# Altium integrated library TI Data Converters Digital to Analog Converter.IntLib: 1533 symbols (part 54 of 99)
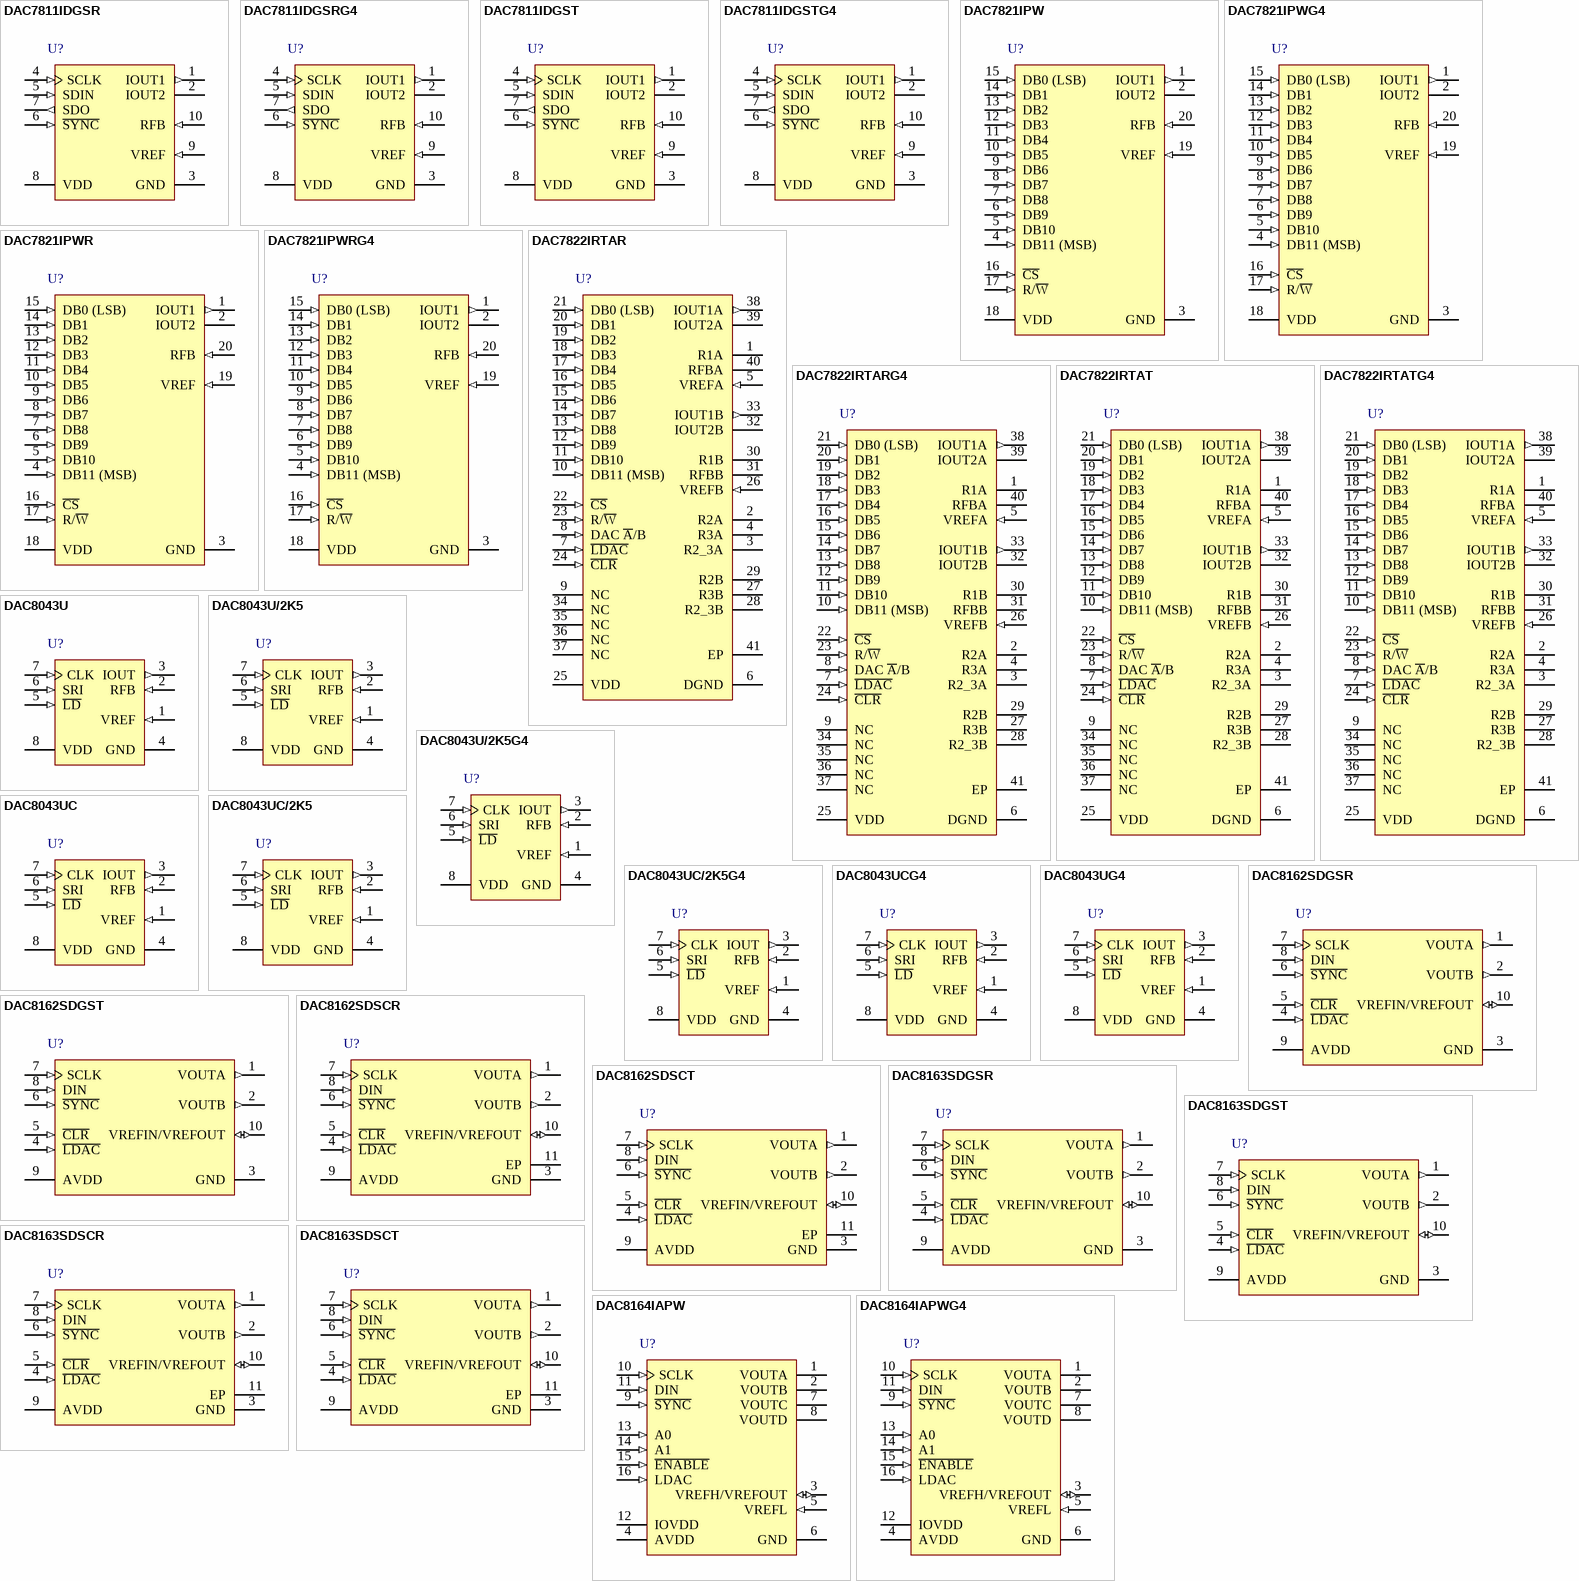
[diagram p126: symbols DAC7811IDGSR to DAC8164IAPWG4]

## DAC8163SDGST
designator U?
14-Bit, Dual, Low Power, Ultra-Low Glitch, Buffered Voltage Output DAC with 2.5 V, 4 ppm/degC Reference, -40 to 125 degC, 10-pin SOP (DGS10), Green (RoHS & no Sb/Br); Manufacturer: Texas Instruments; PartNumber: DAC8163SDGST; DAC Channels: 2; DNL(Max)(+/-LSB): 0.5; INL(Max)(+/-LSB): 3; Interface: Serial SPI; Power Consumption(Typ)(mW): 0.9; Resolution(Bits): 14; Settling Time(us): 7; SubFamily: Precision DAC (=<10MSPS); DatasheetVersion: SLAS719D; PackageVersion: 4073272/C, 02/2004; PackageReference: DGS10; PackageDescription: 10-Pin Plastic Small Outline, Body 3 x 3 mm, Pitch 0.5 mm; Supplier 1: Digi-Key; Supplier Part Number 1: 296-32088-2-ND; Supplier 2: Digi-Key; Supplier Part Number 2: 296-32088-1-ND; Supplier 3: Digi-Key; Supplier Part Number 3: 296-32088-6-ND; Supplier 4: Newark; Supplier Part Number 4: 51T4336; Supplier 5: Mouser; Supplier Part Number 5: 595-DAC8163SDGST; Eco-Plan: Green (RoHS & no Sb/Br); Mounting Technology: Surface Mount; Code_JEDEC: MO-153; ComponentLink1Description: Manufacturer URL; ComponentLink1URL: http://www.ti.com/; ComponentLink2Description: Datasheet; ComponentLink2URL: http://www.ti.com/general/docs/lit/getliterature.tsp?genericPartNumber=DAC8163&fileType=pdf; ComponentLink3Description: Package Specification; ComponentLink3URL: http://www.ti.com/lit/ml/mpds035b/mpds035b.pdf
footprint TI-DGS10_N (SOP, 10-Leads, Body 3x3mm, Pitch 0.5mm, IPC Medium Density)
footprint TI-DGS10_L (SOP, 10-Leads, Body 3x3mm, Pitch 0.5mm, IPC High Density)
footprint TI-DGS10_M (SOP, 10-Leads, Body 3x3mm, Pitch 0.5mm, IPC Low Density)
pins: 1 VOUTA (out) "Analog output voltage from DAC-A", 2 VOUTB (out) "Analog output voltage from DAC-B", 3 GND (power) "Ground reference point for all circuitry on the device", 4 ~{LDAC} (in) "In synchronous mode, data are updated with the falling edge of the 24th SCLK cycle, which follows a falling edge of S\Y\N\C\. For such synchronous updates, the L\D\A\C\ pin is not required, and it must be connected to GND (See Datasheet)", 5 ~{CLR} (in) "Asynchronous clear input. The C\L\R\ input is falling-edge sensitive. When C\L\R\ is activated, zero scale (DACxx62) or mid-scale (DACxx63) is loaded to all input and DAC registers. This sets the DAC output voltages (See Datasheet)", 6 ~{SYNC} (in) "Level-triggered control input (active-low). This input is the frame synchronization signal for the input data. When S\Y\N\C\ goes low, it enables the input shift register, and data are sampled on subsequent falling clock (See Datasheet)", 7 SCLK (in) "Serial clock input. Data can be transferred at rates up to 50 MHz. Schmitt-trigger logic input", 8 DIN (in) "Serial data input. Data are clocked into the 24-bit input shift register on each falling edge of the serial clock input. Schmitt-trigger logic input", 9 AVDD (power) "Power-supply input, 2.7 V to 5.5 V", 10 VREFIN/VREFOUT (io) "Bidirectional voltage reference pin. If internal reference is used, 2.5-V output."

## DAC8163SDSCR
designator U?
14-Bit, Dual, Low Power, Ultra-Low Glitch, Buffered Voltage Output DAC with 2.5 V, 4 ppm/degC Reference, -40 to 125 degC, 10-pin SON (DSC10), Green (RoHS & no Sb/Br); Manufacturer: Texas Instruments; PartNumber: DAC8163SDSCR; DAC Channels: 2; DNL(Max)(+/-LSB): 0.5; INL(Max)(+/-LSB): 3; Interface: Serial SPI; Power Consumption(Typ)(mW): 0.9; Resolution(Bits): 14; Settling Time(us): 7; SubFamily: Precision DAC (=<10MSPS); DatasheetVersion: SLAS719D; PackageVersion: 4207383/E, 01/2011; PackageReference: DSC10-2550X1050TP; PackageDescription: 10-Pin Plastic Small Outline No-Lead, Body 3 x 3 mm, Pitch 0.5 mm; Supplier 1: Digi-Key; Supplier Part Number 1: 296-29029-2-ND; Supplier 2: Digi-Key; Supplier Part Number 2: 296-29029-1-ND; Supplier 3: Digi-Key; Supplier Part Number 3: 296-29029-6-ND; Supplier 4: Mouser; Supplier Part Number 4: 595-DAC8163SDSCR; Eco-Plan: Green (RoHS & no Sb/Br); Mounting Technology: Surface Mount; ComponentLink1Description: Manufacturer URL; ComponentLink1URL: http://www.ti.com/; ComponentLink2Description: Datasheet; ComponentLink2URL: http://www.ti.com/general/docs/lit/getliterature.tsp?genericPartNumber=DAC8163&fileType=pdf; ComponentLink3Description: Package Specification; ComponentLink3URL: http://www.ti.com/litv/pdf/mpds239d
footprint TI-DSC10-2550X1050TP_V (SON, 10-Leads, Body 3x3mm, Pitch 0.5mm, Thermal Pad 2.91x1.05mm)
pins: 1 VOUTA (out) "Analog output voltage from DAC-A", 2 VOUTB (out) "Analog output voltage from DAC-B", 3 GND (power) "Ground reference point for all circuitry on the device", 4 ~{LDAC} (in) "In synchronous mode, data are updated with the falling edge of the 24th SCLK cycle, which follows a falling edge of S\Y\N\C\. For such synchronous updates, the L\D\A\C\ pin is not required, and it must be connected to GND (See Datasheet)", 5 ~{CLR} (in) "Asynchronous clear input. The C\L\R\ input is falling-edge sensitive. When C\L\R\ is activated, zero scale (DACxx62) or mid-scale (DACxx63) is loaded to all input and DAC registers. This sets the DAC output voltages (See Datasheet)", 6 ~{SYNC} (in) "Level-triggered control input (active-low). This input is the frame synchronization signal for the input data. When S\Y\N\C\ goes low, it enables the input shift register, and data are sampled on subsequent falling clock (See Datasheet)", 7 SCLK (in) "Serial clock input. Data can be transferred at rates up to 50 MHz. Schmitt-trigger logic input", 8 DIN (in) "Serial data input. Data are clocked into the 24-bit input shift register on each falling edge of the serial clock input. Schmitt-trigger logic input", 9 AVDD (power) "Power-supply input, 2.7 V to 5.5 V", 10 VREFIN/VREFOUT (io) "Bidirectional voltage reference pin. If internal reference is used, 2.5-V output.", 11 EP (power) "It is recommended to connect the thermal pad to the ground plane for better thermal dissipation."

## DAC8163SDSCT
designator U?
14-Bit, Dual, Low Power, Ultra-Low Glitch, Buffered Voltage Output DAC with 2.5 V, 4 ppm/degC Reference, -40 to 125 degC, 10-pin SON (DSC10), Green (RoHS & no Sb/Br); Manufacturer: Texas Instruments; PartNumber: DAC8163SDSCT; DAC Channels: 2; DNL(Max)(+/-LSB): 0.5; INL(Max)(+/-LSB): 3; Interface: Serial SPI; Power Consumption(Typ)(mW): 0.9; Resolution(Bits): 14; Settling Time(us): 7; SubFamily: Precision DAC (=<10MSPS); DatasheetVersion: SLAS719D; PackageVersion: 4207383/E, 01/2011; PackageReference: DSC10-2550X1050TP; PackageDescription: 10-Pin Plastic Small Outline No-Lead, Body 3 x 3 mm, Pitch 0.5 mm; Supplier 1: Digi-Key; Supplier Part Number 1: 296-29097-2-ND; Supplier 2: Digi-Key; Supplier Part Number 2: 296-29097-1-ND; Supplier 3: Digi-Key; Supplier Part Number 3: 296-29097-6-ND; Supplier 4: Farnell; Supplier Part Number 4: 1924804; Supplier 5: Newark; Supplier Part Number 5: 51T4337; Supplier 6: Mouser; Supplier Part Number 6: 595-DAC8163SDSCT; Eco-Plan: Green (RoHS & no Sb/Br); Mounting Technology: Surface Mount; ComponentLink1Description: Manufacturer URL; ComponentLink1URL: http://www.ti.com/; ComponentLink2Description: Datasheet; ComponentLink2URL: http://www.ti.com/general/docs/lit/getliterature.tsp?genericPartNumber=DAC8163&fileType=pdf; ComponentLink3Description: Package Specification; ComponentLink3URL: http://www.ti.com/litv/pdf/mpds239d
footprint TI-DSC10-2550X1050TP_V (SON, 10-Leads, Body 3x3mm, Pitch 0.5mm, Thermal Pad 2.91x1.05mm)
pins: 1 VOUTA (out) "Analog output voltage from DAC-A", 2 VOUTB (out) "Analog output voltage from DAC-B", 3 GND (power) "Ground reference point for all circuitry on the device", 4 ~{LDAC} (in) "In synchronous mode, data are updated with the falling edge of the 24th SCLK cycle, which follows a falling edge of S\Y\N\C\. For such synchronous updates, the L\D\A\C\ pin is not required, and it must be connected to GND (See Datasheet)", 5 ~{CLR} (in) "Asynchronous clear input. The C\L\R\ input is falling-edge sensitive. When C\L\R\ is activated, zero scale (DACxx62) or mid-scale (DACxx63) is loaded to all input and DAC registers. This sets the DAC output voltages (See Datasheet)", 6 ~{SYNC} (in) "Level-triggered control input (active-low). This input is the frame synchronization signal for the input data. When S\Y\N\C\ goes low, it enables the input shift register, and data are sampled on subsequent falling clock (See Datasheet)", 7 SCLK (in) "Serial clock input. Data can be transferred at rates up to 50 MHz. Schmitt-trigger logic input", 8 DIN (in) "Serial data input. Data are clocked into the 24-bit input shift register on each falling edge of the serial clock input. Schmitt-trigger logic input", 9 AVDD (power) "Power-supply input, 2.7 V to 5.5 V", 10 VREFIN/VREFOUT (io) "Bidirectional voltage reference pin. If internal reference is used, 2.5-V output.", 11 EP (power) "It is recommended to connect the thermal pad to the ground plane for better thermal dissipation."

## DAC8164IAPW
designator U?
14-Bit, Quad Channel, Ultra-Low Glitch, Voltage Output DAC with 2.5 V, 2 ppm/degC Internal Reference, -40 to 105 degC, 16-pin SOP (PW16), Green (RoHS & no Sb/Br); Manufacturer: Texas Instruments; PartNumber: DAC8164IAPW; DAC Channels: 4; DNL(Max)(+/-LSB): 1; Interface: Serial SPI; Power Consumption(Typ)(mW): 2.6; Resolution(Bits): 14; Settling Time(us): 8; SFDR(dB): 79; SNR(dB): 87; SubFamily: Precision DAC (=<10MSPS); DatasheetVersion: SBAS410B; PackageVersion: 4040064-4/G, 02/2011; PackageReference: PW16; PackageDescription: 16-Pin Plastic Small Outline, Body 5 x 4.4 mm, Pitch 0.65 mm; Supplier 1: Digi-Key; Supplier Part Number 1: 296-23142-5-ND; Supplier 2: Farnell; Supplier Part Number 2: 1604244; Supplier 3: Newark; Supplier Part Number 3: 89M0335; Supplier 4: Mouser; Supplier Part Number 4: 595-DAC8164IAPW; Eco-Plan: Green (RoHS & no Sb/Br); INL(Max)(+/-LSB): 4; Mounting Technology: Surface Mount; Code_JEDEC: MO-153; ComponentLink1Description: Manufacturer URL; ComponentLink1URL: http://www.ti.com/; ComponentLink2Description: Datasheet; ComponentLink2URL: http://www.ti.com/general/docs/lit/getliterature.tsp?genericPartNumber=DAC8164&fileType=pdf; ComponentLink3Description: Package Specification; ComponentLink3URL: http://www.ti.com/lit/ml/mpds361/mpds361.pdf
footprint TI-PW16_N (SOP, 16-Leads, Body 5x4.4mm, Pitch 0.65mm, IPC Medium Density)
footprint TI-PW16_L (SOP, 16-Leads, Body 5x4.4mm, Pitch 0.65mm, IPC High Density)
footprint TI-PW16_M (SOP, 16-Leads, Body 5x4.4mm, Pitch 0.65mm, IPC Low Density)
pins: 1 VOUTA (hiz) "Analog output voltage from DAC-A", 2 VOUTB (hiz) "Analog output voltage from DAC-B", 3 VREFH/VREFOUT (io) "Positive reference input / reference output 2.5V if internal reference used.", 4 AVDD (power) "Power-supply input, 2.7V to 5.5V", 5 VREFL (in) "Negative reference input", 6 GND (power) "Ground reference point for all circuitry on the part", 7 VOUTC (hiz) "Analog output voltage from DAC-C", 8 VOUTD (hiz) "Analog output voltage from DAC-D", 9 ~{SYNC} (in) "Level-triggered control input (active-low). This input is the frame synchronization signal for the input data. When S\Y\N\C\ goes low, it enables the input shift register, and data are sampled on subsequent falling clock (See Datasheet)", 10 SCLK (in) "Serial clock input. Data can be transferred at rates up to 50MHz. Schmitt-Trigger logic input", 11 DIN (in) "Serial data input. Data are clocked into the 24-bit input shift register on each falling edge of the serial clock input.Schmitt-trigger logic input", 12 IOVDD (power) "Digital input-output power supply", 13 A0 (in) "Address 0-sets device address", 14 A1 (in) "Address 1-sets device address", 15 ~{ENABLE} (in) "The enable pin (active low) connects the SPI interface to the serial port", 16 LDAC (in) "Load DACs; rising edge triggered, loads all DAC registers"

## DAC8164IAPWG4
designator U?
14-Bit, Quad Channel, Ultra-Low Glitch, Voltage Output DAC with 2.5 V, 2 ppm/degC Internal Reference, -40 to 105 degC, 16-pin SOP (PW16), Green (RoHS & no Sb/Br); Manufacturer: Texas Instruments; PartNumber: DAC8164IAPWG4; DAC Channels: 4; DNL(Max)(+/-LSB): 1; Interface: Serial SPI; Power Consumption(Typ)(mW): 2.6; Resolution(Bits): 14; Settling Time(us): 8; SFDR(dB): 79; SNR(dB): 87; SubFamily: Precision DAC (=<10MSPS); DatasheetVersion: SBAS410B; PackageVersion: 4040064-4/G, 02/2011; PackageReference: PW16; PackageDescription: 16-Pin Plastic Small Outline, Body 5 x 4.4 mm, Pitch 0.65 mm; Supplier 1: Digi-Key; Supplier Part Number 1: DAC8164IAPWG4-ND; Supplier 2: Mouser; Supplier Part Number 2: 595-DAC8164IAPWG4; Eco-Plan: Green (RoHS & no Sb/Br); INL(Max)(+/-LSB): 4; Mounting Technology: Surface Mount; Code_JEDEC: MO-153; ComponentLink1Description: Manufacturer URL; ComponentLink1URL: http://www.ti.com/; ComponentLink2Description: Datasheet; ComponentLink2URL: http://www.ti.com/general/docs/lit/getliterature.tsp?genericPartNumber=DAC8164&fileType=pdf; ComponentLink3Description: Package Specification; ComponentLink3URL: http://www.ti.com/lit/ml/mpds361/mpds361.pdf
footprint TI-PW16_N (SOP, 16-Leads, Body 5x4.4mm, Pitch 0.65mm, IPC Medium Density)
footprint TI-PW16_L (SOP, 16-Leads, Body 5x4.4mm, Pitch 0.65mm, IPC High Density)
footprint TI-PW16_M (SOP, 16-Leads, Body 5x4.4mm, Pitch 0.65mm, IPC Low Density)
pins: 1 VOUTA (hiz) "Analog output voltage from DAC-A", 2 VOUTB (hiz) "Analog output voltage from DAC-B", 3 VREFH/VREFOUT (io) "Positive reference input / reference output 2.5V if internal reference used.", 4 AVDD (power) "Power-supply input, 2.7V to 5.5V", 5 VREFL (in) "Negative reference input", 6 GND (power) "Ground reference point for all circuitry on the part", 7 VOUTC (hiz) "Analog output voltage from DAC-C", 8 VOUTD (hiz) "Analog output voltage from DAC-D", 9 ~{SYNC} (in) "Level-triggered control input (active-low). This input is the frame synchronization signal for the input data. When S\Y\N\C\ goes low, it enables the input shift register, and data are sampled on subsequent falling clock (See Datasheet)", 10 SCLK (in) "Serial clock input. Data can be transferred at rates up to 50MHz. Schmitt-Trigger logic input", 11 DIN (in) "Serial data input. Data are clocked into the 24-bit input shift register on each falling edge of the serial clock input.Schmitt-trigger logic input", 12 IOVDD (power) "Digital input-output power supply", 13 A0 (in) "Address 0-sets device address", 14 A1 (in) "Address 1-sets device address", 15 ~{ENABLE} (in) "The enable pin (active low) connects the SPI interface to the serial port", 16 LDAC (in) "Load DACs; rising edge triggered, loads all DAC registers"

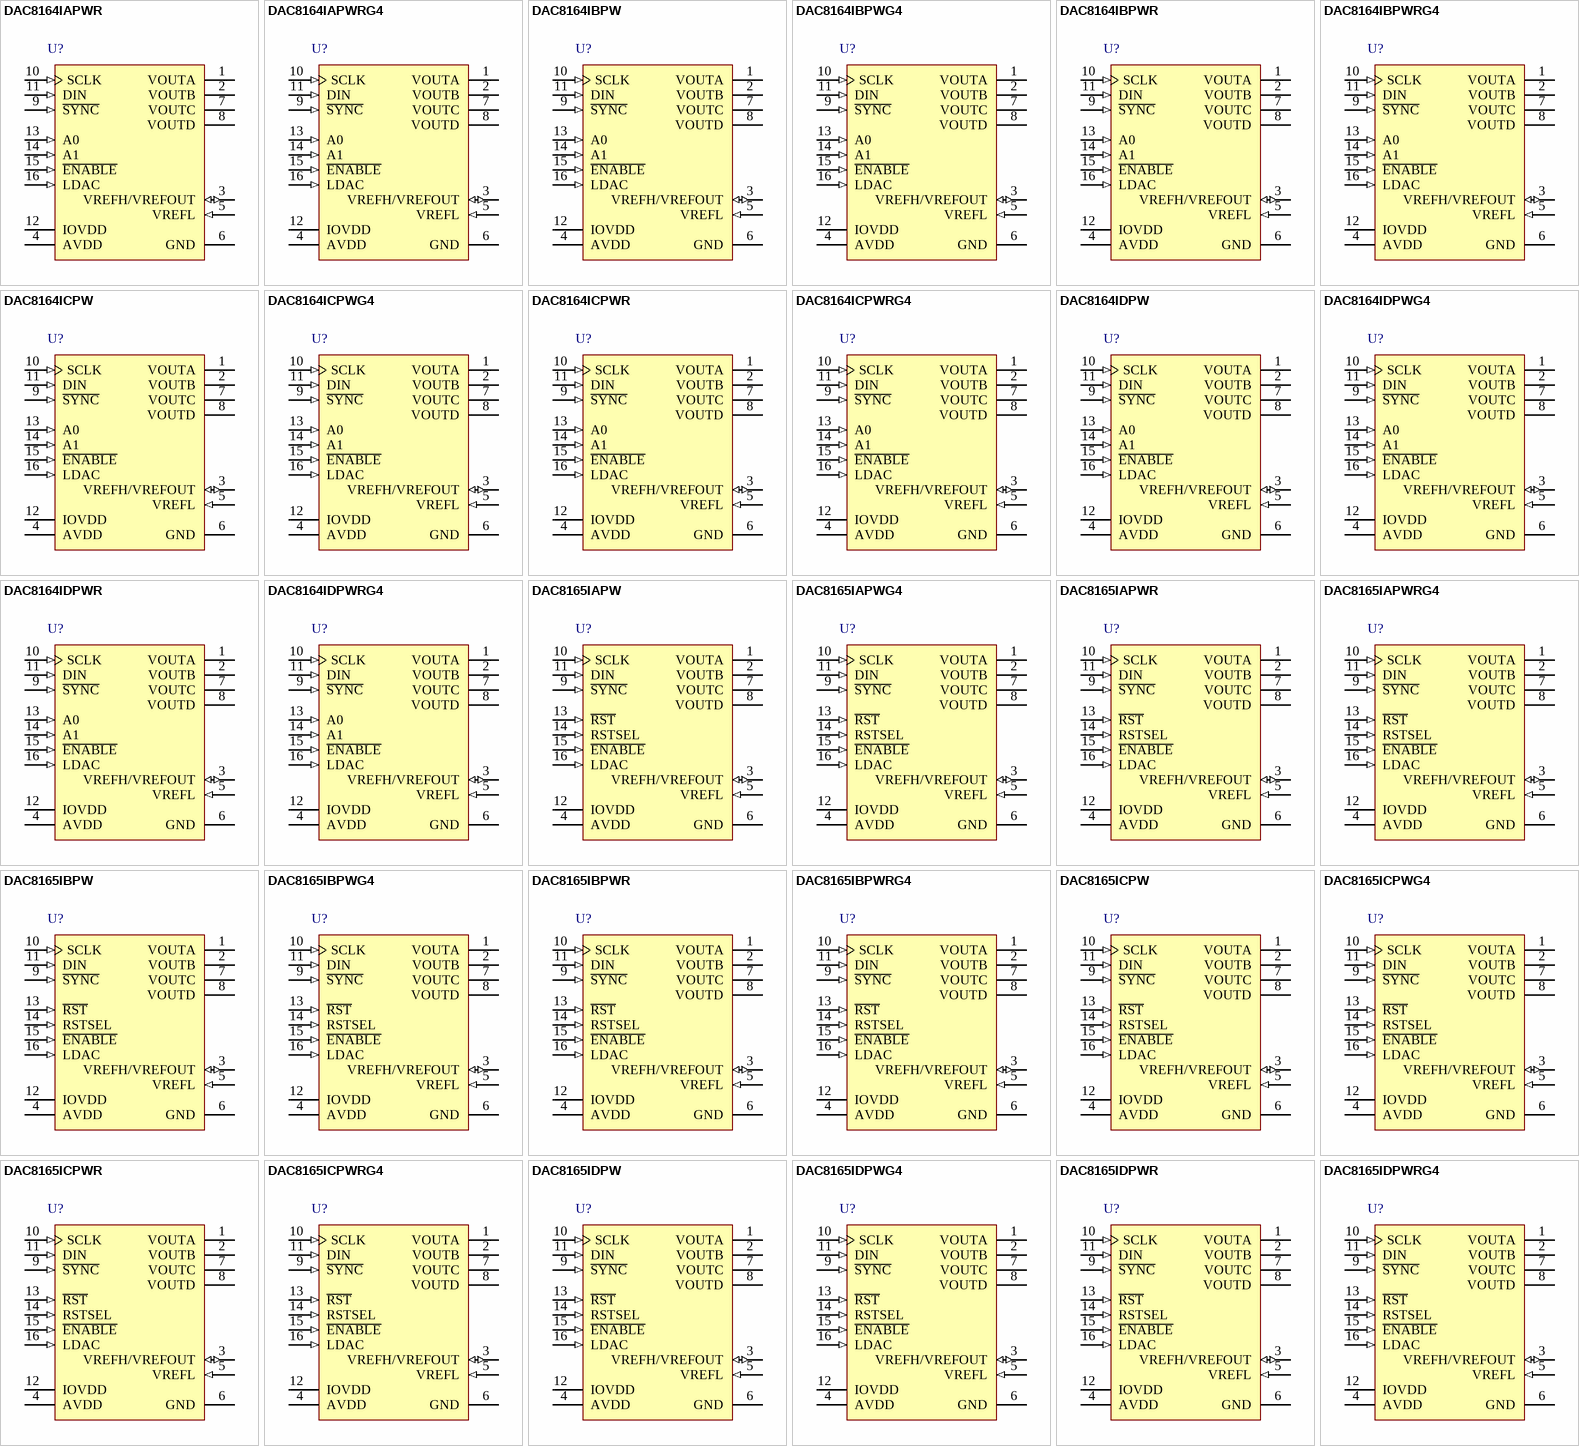
[diagram p43: symbols DAC8164IAPWR to DAC8165IDPWRG4]

## DAC8164IAPWR
designator U?
14-Bit, Quad Channel, Ultra-Low Glitch, Voltage Output DAC with 2.5 V, 2 ppm/degC Internal Reference, -40 to 105 degC, 16-pin SOP (PW16), Green (RoHS & no Sb/Br); Manufacturer: Texas Instruments; PartNumber: DAC8164IAPWR; DAC Channels: 4; DNL(Max)(+/-LSB): 1; Interface: Serial SPI; Power Consumption(Typ)(mW): 2.6; Resolution(Bits): 14; Settling Time(us): 8; SFDR(dB): 79; SNR(dB): 87; SubFamily: Precision DAC (=<10MSPS); DatasheetVersion: SBAS410B; PackageVersion: 4040064-4/G, 02/2011; PackageReference: PW16; PackageDescription: 16-Pin Plastic Small Outline, Body 5 x 4.4 mm, Pitch 0.65 mm; Supplier 1: Digi-Key; Supplier Part Number 1: DAC8164IAPWR-ND; Supplier 2: Mouser; Supplier Part Number 2: 595-DAC8164IAPWR; Eco-Plan: Green (RoHS & no Sb/Br); INL(Max)(+/-LSB): 4; Mounting Technology: Surface Mount; Code_JEDEC: MO-153; ComponentLink1Description: Manufacturer URL; ComponentLink1URL: http://www.ti.com/; ComponentLink2Description: Datasheet; ComponentLink2URL: http://www.ti.com/general/docs/lit/getliterature.tsp?genericPartNumber=DAC8164&fileType=pdf; ComponentLink3Description: Package Specification; ComponentLink3URL: http://www.ti.com/lit/ml/mpds361/mpds361.pdf
footprint TI-PW16_N (SOP, 16-Leads, Body 5x4.4mm, Pitch 0.65mm, IPC Medium Density)
footprint TI-PW16_L (SOP, 16-Leads, Body 5x4.4mm, Pitch 0.65mm, IPC High Density)
footprint TI-PW16_M (SOP, 16-Leads, Body 5x4.4mm, Pitch 0.65mm, IPC Low Density)
pins: 1 VOUTA (hiz) "Analog output voltage from DAC-A", 2 VOUTB (hiz) "Analog output voltage from DAC-B", 3 VREFH/VREFOUT (io) "Positive reference input / reference output 2.5V if internal reference used.", 4 AVDD (power) "Power-supply input, 2.7V to 5.5V", 5 VREFL (in) "Negative reference input", 6 GND (power) "Ground reference point for all circuitry on the part", 7 VOUTC (hiz) "Analog output voltage from DAC-C", 8 VOUTD (hiz) "Analog output voltage from DAC-D", 9 ~{SYNC} (in) "Level-triggered control input (active-low). This input is the frame synchronization signal for the input data. When S\Y\N\C\ goes low, it enables the input shift register, and data are sampled on subsequent falling clock (See Datasheet)", 10 SCLK (in) "Serial clock input. Data can be transferred at rates up to 50MHz. Schmitt-Trigger logic input", 11 DIN (in) "Serial data input. Data are clocked into the 24-bit input shift register on each falling edge of the serial clock input.Schmitt-trigger logic input", 12 IOVDD (power) "Digital input-output power supply", 13 A0 (in) "Address 0-sets device address", 14 A1 (in) "Address 1-sets device address", 15 ~{ENABLE} (in) "The enable pin (active low) connects the SPI interface to the serial port", 16 LDAC (in) "Load DACs; rising edge triggered, loads all DAC registers"

## DAC8164IAPWRG4
designator U?
14-Bit, Quad Channel, Ultra-Low Glitch, Voltage Output DAC with 2.5 V, 2 ppm/degC Internal Reference, -40 to 105 degC, 16-pin SOP (PW16), Green (RoHS & no Sb/Br); Manufacturer: Texas Instruments; PartNumber: DAC8164IAPWRG4; DAC Channels: 4; DNL(Max)(+/-LSB): 1; Interface: Serial SPI; Power Consumption(Typ)(mW): 2.6; Resolution(Bits): 14; Settling Time(us): 8; SFDR(dB): 79; SNR(dB): 87; SubFamily: Precision DAC (=<10MSPS); DatasheetVersion: SBAS410B; PackageVersion: 4040064-4/G, 02/2011; PackageReference: PW16; PackageDescription: 16-Pin Plastic Small Outline, Body 5 x 4.4 mm, Pitch 0.65 mm; Supplier 1: Digi-Key; Supplier Part Number 1: DAC8164IAPWRG4-ND; Supplier 2: Mouser; Supplier Part Number 2: 595-DAC8164IAPWRG4; Eco-Plan: Green (RoHS & no Sb/Br); INL(Max)(+/-LSB): 4; Mounting Technology: Surface Mount; Code_JEDEC: MO-153; ComponentLink1Description: Manufacturer URL; ComponentLink1URL: http://www.ti.com/; ComponentLink2Description: Datasheet; ComponentLink2URL: http://www.ti.com/general/docs/lit/getliterature.tsp?genericPartNumber=DAC8164&fileType=pdf; ComponentLink3Description: Package Specification; ComponentLink3URL: http://www.ti.com/lit/ml/mpds361/mpds361.pdf
footprint TI-PW16_N (SOP, 16-Leads, Body 5x4.4mm, Pitch 0.65mm, IPC Medium Density)
footprint TI-PW16_L (SOP, 16-Leads, Body 5x4.4mm, Pitch 0.65mm, IPC High Density)
footprint TI-PW16_M (SOP, 16-Leads, Body 5x4.4mm, Pitch 0.65mm, IPC Low Density)
pins: 1 VOUTA (hiz) "Analog output voltage from DAC-A", 2 VOUTB (hiz) "Analog output voltage from DAC-B", 3 VREFH/VREFOUT (io) "Positive reference input / reference output 2.5V if internal reference used.", 4 AVDD (power) "Power-supply input, 2.7V to 5.5V", 5 VREFL (in) "Negative reference input", 6 GND (power) "Ground reference point for all circuitry on the part", 7 VOUTC (hiz) "Analog output voltage from DAC-C", 8 VOUTD (hiz) "Analog output voltage from DAC-D", 9 ~{SYNC} (in) "Level-triggered control input (active-low). This input is the frame synchronization signal for the input data. When S\Y\N\C\ goes low, it enables the input shift register, and data are sampled on subsequent falling clock (See Datasheet)", 10 SCLK (in) "Serial clock input. Data can be transferred at rates up to 50MHz. Schmitt-Trigger logic input", 11 DIN (in) "Serial data input. Data are clocked into the 24-bit input shift register on each falling edge of the serial clock input.Schmitt-trigger logic input", 12 IOVDD (power) "Digital input-output power supply", 13 A0 (in) "Address 0-sets device address", 14 A1 (in) "Address 1-sets device address", 15 ~{ENABLE} (in) "The enable pin (active low) connects the SPI interface to the serial port", 16 LDAC (in) "Load DACs; rising edge triggered, loads all DAC registers"

## DAC8164IBPW
designator U?
14-Bit, Quad Channel, Ultra-Low Glitch, Voltage Output DAC with 2.5 V, 2 ppm/degC Internal Reference, -40 to 105 degC, 16-pin SOP (PW16), Green (RoHS & no Sb/Br); Manufacturer: Texas Instruments; PartNumber: DAC8164IBPW; DAC Channels: 4; DNL(Max)(+/-LSB): 1; INL(Max)(+/-LSB): 2; Interface: Serial SPI; Power Consumption(Typ)(mW): 2.6; Resolution(Bits): 14; Settling Time(us): 8; SFDR(dB): 79; SNR(dB): 87; SubFamily: Precision DAC (=<10MSPS); DatasheetVersion: SBAS410B; PackageVersion: 4040064-4/G, 02/2011; PackageReference: PW16; PackageDescription: 16-Pin Plastic Small Outline, Body 5 x 4.4 mm, Pitch 0.65 mm; Supplier 1: Digi-Key; Supplier Part Number 1: 296-23143-5-ND; Supplier 2: Newark; Supplier Part Number 2: 89M0336; Supplier 3: Mouser; Supplier Part Number 3: 595-DAC8164IBPW; Eco-Plan: Green (RoHS & no Sb/Br); Mounting Technology: Surface Mount; Code_JEDEC: MO-153; ComponentLink1Description: Manufacturer URL; ComponentLink1URL: http://www.ti.com/; ComponentLink2Description: Datasheet; ComponentLink2URL: http://www.ti.com/general/docs/lit/getliterature.tsp?genericPartNumber=DAC8164&fileType=pdf; ComponentLink3Description: Package Specification; ComponentLink3URL: http://www.ti.com/lit/ml/mpds361/mpds361.pdf
footprint TI-PW16_N (SOP, 16-Leads, Body 5x4.4mm, Pitch 0.65mm, IPC Medium Density)
footprint TI-PW16_L (SOP, 16-Leads, Body 5x4.4mm, Pitch 0.65mm, IPC High Density)
footprint TI-PW16_M (SOP, 16-Leads, Body 5x4.4mm, Pitch 0.65mm, IPC Low Density)
pins: 1 VOUTA (hiz) "Analog output voltage from DAC-A", 2 VOUTB (hiz) "Analog output voltage from DAC-B", 3 VREFH/VREFOUT (io) "Positive reference input / reference output 2.5V if internal reference used.", 4 AVDD (power) "Power-supply input, 2.7V to 5.5V", 5 VREFL (in) "Negative reference input", 6 GND (power) "Ground reference point for all circuitry on the part", 7 VOUTC (hiz) "Analog output voltage from DAC-C", 8 VOUTD (hiz) "Analog output voltage from DAC-D", 9 ~{SYNC} (in) "Level-triggered control input (active-low). This input is the frame synchronization signal for the input data. When S\Y\N\C\ goes low, it enables the input shift register, and data are sampled on subsequent falling clock (See Datasheet)", 10 SCLK (in) "Serial clock input. Data can be transferred at rates up to 50MHz. Schmitt-Trigger logic input", 11 DIN (in) "Serial data input. Data are clocked into the 24-bit input shift register on each falling edge of the serial clock input.Schmitt-trigger logic input", 12 IOVDD (power) "Digital input-output power supply", 13 A0 (in) "Address 0-sets device address", 14 A1 (in) "Address 1-sets device address", 15 ~{ENABLE} (in) "The enable pin (active low) connects the SPI interface to the serial port", 16 LDAC (in) "Load DACs; rising edge triggered, loads all DAC registers"

## DAC8164IBPWG4
designator U?
14-Bit, Quad Channel, Ultra-Low Glitch, Voltage Output DAC with 2.5 V, 2 ppm/degC Internal Reference, -40 to 105 degC, 16-pin SOP (PW16), Green (RoHS & no Sb/Br); Manufacturer: Texas Instruments; PartNumber: DAC8164IBPWG4; DAC Channels: 4; DNL(Max)(+/-LSB): 1; INL(Max)(+/-LSB): 2; Interface: Serial SPI; Power Consumption(Typ)(mW): 2.6; Resolution(Bits): 14; Settling Time(us): 8; SFDR(dB): 79; SNR(dB): 87; SubFamily: Precision DAC (=<10MSPS); DatasheetVersion: SBAS410B; PackageVersion: 4040064-4/G, 02/2011; PackageReference: PW16; PackageDescription: 16-Pin Plastic Small Outline, Body 5 x 4.4 mm, Pitch 0.65 mm; Supplier 1: Digi-Key; Supplier Part Number 1: DAC8164IBPWG4-ND; Supplier 2: Mouser; Supplier Part Number 2: 595-DAC8164IBPWG4; Eco-Plan: Green (RoHS & no Sb/Br); Mounting Technology: Surface Mount; Code_JEDEC: MO-153; ComponentLink1Description: Manufacturer URL; ComponentLink1URL: http://www.ti.com/; ComponentLink2Description: Datasheet; ComponentLink2URL: http://www.ti.com/general/docs/lit/getliterature.tsp?genericPartNumber=DAC8164&fileType=pdf; ComponentLink3Description: Package Specification; ComponentLink3URL: http://www.ti.com/lit/ml/mpds361/mpds361.pdf
footprint TI-PW16_N (SOP, 16-Leads, Body 5x4.4mm, Pitch 0.65mm, IPC Medium Density)
footprint TI-PW16_L (SOP, 16-Leads, Body 5x4.4mm, Pitch 0.65mm, IPC High Density)
footprint TI-PW16_M (SOP, 16-Leads, Body 5x4.4mm, Pitch 0.65mm, IPC Low Density)
pins: 1 VOUTA (hiz) "Analog output voltage from DAC-A", 2 VOUTB (hiz) "Analog output voltage from DAC-B", 3 VREFH/VREFOUT (io) "Positive reference input / reference output 2.5V if internal reference used.", 4 AVDD (power) "Power-supply input, 2.7V to 5.5V", 5 VREFL (in) "Negative reference input", 6 GND (power) "Ground reference point for all circuitry on the part", 7 VOUTC (hiz) "Analog output voltage from DAC-C", 8 VOUTD (hiz) "Analog output voltage from DAC-D", 9 ~{SYNC} (in) "Level-triggered control input (active-low). This input is the frame synchronization signal for the input data. When S\Y\N\C\ goes low, it enables the input shift register, and data are sampled on subsequent falling clock (See Datasheet)", 10 SCLK (in) "Serial clock input. Data can be transferred at rates up to 50MHz. Schmitt-Trigger logic input", 11 DIN (in) "Serial data input. Data are clocked into the 24-bit input shift register on each falling edge of the serial clock input.Schmitt-trigger logic input", 12 IOVDD (power) "Digital input-output power supply", 13 A0 (in) "Address 0-sets device address", 14 A1 (in) "Address 1-sets device address", 15 ~{ENABLE} (in) "The enable pin (active low) connects the SPI interface to the serial port", 16 LDAC (in) "Load DACs; rising edge triggered, loads all DAC registers"

## DAC8164IBPWR
designator U?
14-Bit, Quad Channel, Ultra-Low Glitch, Voltage Output DAC with 2.5 V, 2 ppm/degC Internal Reference, -40 to 105 degC, 16-pin SOP (PW16), Green (RoHS & no Sb/Br); Manufacturer: Texas Instruments; PartNumber: DAC8164IBPWR; DAC Channels: 4; DNL(Max)(+/-LSB): 1; INL(Max)(+/-LSB): 2; Interface: Serial SPI; Power Consumption(Typ)(mW): 2.6; Resolution(Bits): 14; Settling Time(us): 8; SFDR(dB): 79; SNR(dB): 87; SubFamily: Precision DAC (=<10MSPS); DatasheetVersion: SBAS410B; PackageVersion: 4040064-4/G, 02/2011; PackageReference: PW16; PackageDescription: 16-Pin Plastic Small Outline, Body 5 x 4.4 mm, Pitch 0.65 mm; Supplier 1: Digi-Key; Supplier Part Number 1: DAC8164IBPWR-ND; Supplier 2: Mouser; Supplier Part Number 2: 595-DAC8164IBPWR; Eco-Plan: Green (RoHS & no Sb/Br); Mounting Technology: Surface Mount; Code_JEDEC: MO-153; ComponentLink1Description: Manufacturer URL; ComponentLink1URL: http://www.ti.com/; ComponentLink2Description: Datasheet; ComponentLink2URL: http://www.ti.com/general/docs/lit/getliterature.tsp?genericPartNumber=DAC8164&fileType=pdf; ComponentLink3Description: Package Specification; ComponentLink3URL: http://www.ti.com/lit/ml/mpds361/mpds361.pdf
footprint TI-PW16_N (SOP, 16-Leads, Body 5x4.4mm, Pitch 0.65mm, IPC Medium Density)
footprint TI-PW16_L (SOP, 16-Leads, Body 5x4.4mm, Pitch 0.65mm, IPC High Density)
footprint TI-PW16_M (SOP, 16-Leads, Body 5x4.4mm, Pitch 0.65mm, IPC Low Density)
pins: 1 VOUTA (hiz) "Analog output voltage from DAC-A", 2 VOUTB (hiz) "Analog output voltage from DAC-B", 3 VREFH/VREFOUT (io) "Positive reference input / reference output 2.5V if internal reference used.", 4 AVDD (power) "Power-supply input, 2.7V to 5.5V", 5 VREFL (in) "Negative reference input", 6 GND (power) "Ground reference point for all circuitry on the part", 7 VOUTC (hiz) "Analog output voltage from DAC-C", 8 VOUTD (hiz) "Analog output voltage from DAC-D", 9 ~{SYNC} (in) "Level-triggered control input (active-low). This input is the frame synchronization signal for the input data. When S\Y\N\C\ goes low, it enables the input shift register, and data are sampled on subsequent falling clock (See Datasheet)", 10 SCLK (in) "Serial clock input. Data can be transferred at rates up to 50MHz. Schmitt-Trigger logic input", 11 DIN (in) "Serial data input. Data are clocked into the 24-bit input shift register on each falling edge of the serial clock input.Schmitt-trigger logic input", 12 IOVDD (power) "Digital input-output power supply", 13 A0 (in) "Address 0-sets device address", 14 A1 (in) "Address 1-sets device address", 15 ~{ENABLE} (in) "The enable pin (active low) connects the SPI interface to the serial port", 16 LDAC (in) "Load DACs; rising edge triggered, loads all DAC registers"

## DAC8164IBPWRG4
designator U?
14-Bit, Quad Channel, Ultra-Low Glitch, Voltage Output DAC with 2.5 V, 2 ppm/degC Internal Reference, -40 to 105 degC, 16-pin SOP (PW16), Green (RoHS & no Sb/Br); Manufacturer: Texas Instruments; PartNumber: DAC8164IBPWRG4; DAC Channels: 4; DNL(Max)(+/-LSB): 1; INL(Max)(+/-LSB): 2; Interface: Serial SPI; Power Consumption(Typ)(mW): 2.6; Resolution(Bits): 14; Settling Time(us): 8; SFDR(dB): 79; SNR(dB): 87; SubFamily: Precision DAC (=<10MSPS); DatasheetVersion: SBAS410B; PackageVersion: 4040064-4/G, 02/2011; PackageReference: PW16; PackageDescription: 16-Pin Plastic Small Outline, Body 5 x 4.4 mm, Pitch 0.65 mm; Supplier 1: Digi-Key; Supplier Part Number 1: DAC8164IBPWRG4-ND; Supplier 2: Mouser; Supplier Part Number 2: 595-DAC8164IBPWRG4; Eco-Plan: Green (RoHS & no Sb/Br); Mounting Technology: Surface Mount; Code_JEDEC: MO-153; ComponentLink1Description: Manufacturer URL; ComponentLink1URL: http://www.ti.com/; ComponentLink2Description: Datasheet; ComponentLink2URL: http://www.ti.com/general/docs/lit/getliterature.tsp?genericPartNumber=DAC8164&fileType=pdf; ComponentLink3Description: Package Specification; ComponentLink3URL: http://www.ti.com/lit/ml/mpds361/mpds361.pdf
footprint TI-PW16_N (SOP, 16-Leads, Body 5x4.4mm, Pitch 0.65mm, IPC Medium Density)
footprint TI-PW16_L (SOP, 16-Leads, Body 5x4.4mm, Pitch 0.65mm, IPC High Density)
footprint TI-PW16_M (SOP, 16-Leads, Body 5x4.4mm, Pitch 0.65mm, IPC Low Density)
pins: 1 VOUTA (hiz) "Analog output voltage from DAC-A", 2 VOUTB (hiz) "Analog output voltage from DAC-B", 3 VREFH/VREFOUT (io) "Positive reference input / reference output 2.5V if internal reference used.", 4 AVDD (power) "Power-supply input, 2.7V to 5.5V", 5 VREFL (in) "Negative reference input", 6 GND (power) "Ground reference point for all circuitry on the part", 7 VOUTC (hiz) "Analog output voltage from DAC-C", 8 VOUTD (hiz) "Analog output voltage from DAC-D", 9 ~{SYNC} (in) "Level-triggered control input (active-low). This input is the frame synchronization signal for the input data. When S\Y\N\C\ goes low, it enables the input shift register, and data are sampled on subsequent falling clock (See Datasheet)", 10 SCLK (in) "Serial clock input. Data can be transferred at rates up to 50MHz. Schmitt-Trigger logic input", 11 DIN (in) "Serial data input. Data are clocked into the 24-bit input shift register on each falling edge of the serial clock input.Schmitt-trigger logic input", 12 IOVDD (power) "Digital input-output power supply", 13 A0 (in) "Address 0-sets device address", 14 A1 (in) "Address 1-sets device address", 15 ~{ENABLE} (in) "The enable pin (active low) connects the SPI interface to the serial port", 16 LDAC (in) "Load DACs; rising edge triggered, loads all DAC registers"

## DAC8164ICPW
designator U?
14-Bit, Quad Channel, Ultra-Low Glitch, Voltage Output DAC with 2.5 V, 2 ppm/degC Internal Reference, -40 to 105 degC, 16-pin SOP (PW16), Green (RoHS & no Sb/Br); Manufacturer: Texas Instruments; PartNumber: DAC8164ICPW; DAC Channels: 4; DNL(Max)(+/-LSB): 1; Interface: Serial SPI; Power Consumption(Typ)(mW): 2.6; Resolution(Bits): 14; Settling Time(us): 8; SFDR(dB): 79; SNR(dB): 87; SubFamily: Precision DAC (=<10MSPS); DatasheetVersion: SBAS410B; PackageVersion: 4040064-4/G, 02/2011; PackageReference: PW16; PackageDescription: 16-Pin Plastic Small Outline, Body 5 x 4.4 mm, Pitch 0.65 mm; Supplier 1: Digi-Key; Supplier Part Number 1: 296-23144-5-ND; Supplier 2: Newark; Supplier Part Number 2: 89M0337; Supplier 3: Mouser; Supplier Part Number 3: 595-DAC8164ICPW; Eco-Plan: Green (RoHS & no Sb/Br); INL(Max)(+/-LSB): 4; Mounting Technology: Surface Mount; Code_JEDEC: MO-153; ComponentLink1Description: Manufacturer URL; ComponentLink1URL: http://www.ti.com/; ComponentLink2Description: Datasheet; ComponentLink2URL: http://www.ti.com/general/docs/lit/getliterature.tsp?genericPartNumber=DAC8164&fileType=pdf; ComponentLink3Description: Package Specification; ComponentLink3URL: http://www.ti.com/lit/ml/mpds361/mpds361.pdf
footprint TI-PW16_N (SOP, 16-Leads, Body 5x4.4mm, Pitch 0.65mm, IPC Medium Density)
footprint TI-PW16_L (SOP, 16-Leads, Body 5x4.4mm, Pitch 0.65mm, IPC High Density)
footprint TI-PW16_M (SOP, 16-Leads, Body 5x4.4mm, Pitch 0.65mm, IPC Low Density)
pins: 1 VOUTA (hiz) "Analog output voltage from DAC-A", 2 VOUTB (hiz) "Analog output voltage from DAC-B", 3 VREFH/VREFOUT (io) "Positive reference input / reference output 2.5V if internal reference used.", 4 AVDD (power) "Power-supply input, 2.7V to 5.5V", 5 VREFL (in) "Negative reference input", 6 GND (power) "Ground reference point for all circuitry on the part", 7 VOUTC (hiz) "Analog output voltage from DAC-C", 8 VOUTD (hiz) "Analog output voltage from DAC-D", 9 ~{SYNC} (in) "Level-triggered control input (active-low). This input is the frame synchronization signal for the input data. When S\Y\N\C\ goes low, it enables the input shift register, and data are sampled on subsequent falling clock (See Datasheet)", 10 SCLK (in) "Serial clock input. Data can be transferred at rates up to 50MHz. Schmitt-Trigger logic input", 11 DIN (in) "Serial data input. Data are clocked into the 24-bit input shift register on each falling edge of the serial clock input.Schmitt-trigger logic input", 12 IOVDD (power) "Digital input-output power supply", 13 A0 (in) "Address 0-sets device address", 14 A1 (in) "Address 1-sets device address", 15 ~{ENABLE} (in) "The enable pin (active low) connects the SPI interface to the serial port", 16 LDAC (in) "Load DACs; rising edge triggered, loads all DAC registers"

## DAC8164ICPWG4
designator U?
14-Bit, Quad Channel, Ultra-Low Glitch, Voltage Output DAC with 2.5 V, 2 ppm/degC Internal Reference, -40 to 105 degC, 16-pin SOP (PW16), Green (RoHS & no Sb/Br); Manufacturer: Texas Instruments; PartNumber: DAC8164ICPWG4; DAC Channels: 4; DNL(Max)(+/-LSB): 1; Interface: Serial SPI; Power Consumption(Typ)(mW): 2.6; Resolution(Bits): 14; Settling Time(us): 8; SFDR(dB): 79; SNR(dB): 87; SubFamily: Precision DAC (=<10MSPS); DatasheetVersion: SBAS410B; PackageVersion: 4040064-4/G, 02/2011; PackageReference: PW16; PackageDescription: 16-Pin Plastic Small Outline, Body 5 x 4.4 mm, Pitch 0.65 mm; Supplier 1: Digi-Key; Supplier Part Number 1: DAC8164ICPWG4-ND; Supplier 2: Mouser; Supplier Part Number 2: 595-DAC8164ICPWG4; Eco-Plan: Green (RoHS & no Sb/Br); INL(Max)(+/-LSB): 4; Mounting Technology: Surface Mount; Code_JEDEC: MO-153; ComponentLink1Description: Manufacturer URL; ComponentLink1URL: http://www.ti.com/; ComponentLink2Description: Datasheet; ComponentLink2URL: http://www.ti.com/general/docs/lit/getliterature.tsp?genericPartNumber=DAC8164&fileType=pdf; ComponentLink3Description: Package Specification; ComponentLink3URL: http://www.ti.com/lit/ml/mpds361/mpds361.pdf
footprint TI-PW16_N (SOP, 16-Leads, Body 5x4.4mm, Pitch 0.65mm, IPC Medium Density)
footprint TI-PW16_L (SOP, 16-Leads, Body 5x4.4mm, Pitch 0.65mm, IPC High Density)
footprint TI-PW16_M (SOP, 16-Leads, Body 5x4.4mm, Pitch 0.65mm, IPC Low Density)
pins: 1 VOUTA (hiz) "Analog output voltage from DAC-A", 2 VOUTB (hiz) "Analog output voltage from DAC-B", 3 VREFH/VREFOUT (io) "Positive reference input / reference output 2.5V if internal reference used.", 4 AVDD (power) "Power-supply input, 2.7V to 5.5V", 5 VREFL (in) "Negative reference input", 6 GND (power) "Ground reference point for all circuitry on the part", 7 VOUTC (hiz) "Analog output voltage from DAC-C", 8 VOUTD (hiz) "Analog output voltage from DAC-D", 9 ~{SYNC} (in) "Level-triggered control input (active-low). This input is the frame synchronization signal for the input data. When S\Y\N\C\ goes low, it enables the input shift register, and data are sampled on subsequent falling clock (See Datasheet)", 10 SCLK (in) "Serial clock input. Data can be transferred at rates up to 50MHz. Schmitt-Trigger logic input", 11 DIN (in) "Serial data input. Data are clocked into the 24-bit input shift register on each falling edge of the serial clock input.Schmitt-trigger logic input", 12 IOVDD (power) "Digital input-output power supply", 13 A0 (in) "Address 0-sets device address", 14 A1 (in) "Address 1-sets device address", 15 ~{ENABLE} (in) "The enable pin (active low) connects the SPI interface to the serial port", 16 LDAC (in) "Load DACs; rising edge triggered, loads all DAC registers"

## DAC8164ICPWR
designator U?
14-Bit, Quad Channel, Ultra-Low Glitch, Voltage Output DAC with 2.5 V, 2 ppm/degC Internal Reference, -40 to 105 degC, 16-pin SOP (PW16), Green (RoHS & no Sb/Br); Manufacturer: Texas Instruments; PartNumber: DAC8164ICPWR; DAC Channels: 4; DNL(Max)(+/-LSB): 1; Interface: Serial SPI; Power Consumption(Typ)(mW): 2.6; Resolution(Bits): 14; Settling Time(us): 8; SFDR(dB): 79; SNR(dB): 87; SubFamily: Precision DAC (=<10MSPS); DatasheetVersion: SBAS410B; PackageVersion: 4040064-4/G, 02/2011; PackageReference: PW16; PackageDescription: 16-Pin Plastic Small Outline, Body 5 x 4.4 mm, Pitch 0.65 mm; Supplier 1: Digi-Key; Supplier Part Number 1: DAC8164ICPWR-ND; Supplier 2: Mouser; Supplier Part Number 2: 595-DAC8164ICPWR; Eco-Plan: Green (RoHS & no Sb/Br); INL(Max)(+/-LSB): 4; Mounting Technology: Surface Mount; Code_JEDEC: MO-153; ComponentLink1Description: Manufacturer URL; ComponentLink1URL: http://www.ti.com/; ComponentLink2Description: Datasheet; ComponentLink2URL: http://www.ti.com/general/docs/lit/getliterature.tsp?genericPartNumber=DAC8164&fileType=pdf; ComponentLink3Description: Package Specification; ComponentLink3URL: http://www.ti.com/lit/ml/mpds361/mpds361.pdf
footprint TI-PW16_N (SOP, 16-Leads, Body 5x4.4mm, Pitch 0.65mm, IPC Medium Density)
footprint TI-PW16_L (SOP, 16-Leads, Body 5x4.4mm, Pitch 0.65mm, IPC High Density)
footprint TI-PW16_M (SOP, 16-Leads, Body 5x4.4mm, Pitch 0.65mm, IPC Low Density)
pins: 1 VOUTA (hiz) "Analog output voltage from DAC-A", 2 VOUTB (hiz) "Analog output voltage from DAC-B", 3 VREFH/VREFOUT (io) "Positive reference input / reference output 2.5V if internal reference used.", 4 AVDD (power) "Power-supply input, 2.7V to 5.5V", 5 VREFL (in) "Negative reference input", 6 GND (power) "Ground reference point for all circuitry on the part", 7 VOUTC (hiz) "Analog output voltage from DAC-C", 8 VOUTD (hiz) "Analog output voltage from DAC-D", 9 ~{SYNC} (in) "Level-triggered control input (active-low). This input is the frame synchronization signal for the input data. When S\Y\N\C\ goes low, it enables the input shift register, and data are sampled on subsequent falling clock (See Datasheet)", 10 SCLK (in) "Serial clock input. Data can be transferred at rates up to 50MHz. Schmitt-Trigger logic input", 11 DIN (in) "Serial data input. Data are clocked into the 24-bit input shift register on each falling edge of the serial clock input.Schmitt-trigger logic input", 12 IOVDD (power) "Digital input-output power supply", 13 A0 (in) "Address 0-sets device address", 14 A1 (in) "Address 1-sets device address", 15 ~{ENABLE} (in) "The enable pin (active low) connects the SPI interface to the serial port", 16 LDAC (in) "Load DACs; rising edge triggered, loads all DAC registers"

## DAC8164ICPWRG4
designator U?
14-Bit, Quad Channel, Ultra-Low Glitch, Voltage Output DAC with 2.5 V, 2 ppm/degC Internal Reference, -40 to 105 degC, 16-pin SOP (PW16), Green (RoHS & no Sb/Br); Manufacturer: Texas Instruments; PartNumber: DAC8164ICPWRG4; DAC Channels: 4; DNL(Max)(+/-LSB): 1; Interface: Serial SPI; Power Consumption(Typ)(mW): 2.6; Resolution(Bits): 14; Settling Time(us): 8; SFDR(dB): 79; SNR(dB): 87; SubFamily: Precision DAC (=<10MSPS); DatasheetVersion: SBAS410B; PackageVersion: 4040064-4/G, 02/2011; PackageReference: PW16; PackageDescription: 16-Pin Plastic Small Outline, Body 5 x 4.4 mm, Pitch 0.65 mm; Supplier 1: Digi-Key; Supplier Part Number 1: DAC8164ICPWRG4-ND; Supplier 2: Mouser; Supplier Part Number 2: 595-DAC8164ICPWRG4; Eco-Plan: Green (RoHS & no Sb/Br); INL(Max)(+/-LSB): 4; Mounting Technology: Surface Mount; Code_JEDEC: MO-153; ComponentLink1Description: Manufacturer URL; ComponentLink1URL: http://www.ti.com/; ComponentLink2Description: Datasheet; ComponentLink2URL: http://www.ti.com/general/docs/lit/getliterature.tsp?genericPartNumber=DAC8164&fileType=pdf; ComponentLink3Description: Package Specification; ComponentLink3URL: http://www.ti.com/lit/ml/mpds361/mpds361.pdf
footprint TI-PW16_N (SOP, 16-Leads, Body 5x4.4mm, Pitch 0.65mm, IPC Medium Density)
footprint TI-PW16_L (SOP, 16-Leads, Body 5x4.4mm, Pitch 0.65mm, IPC High Density)
footprint TI-PW16_M (SOP, 16-Leads, Body 5x4.4mm, Pitch 0.65mm, IPC Low Density)
pins: 1 VOUTA (hiz) "Analog output voltage from DAC-A", 2 VOUTB (hiz) "Analog output voltage from DAC-B", 3 VREFH/VREFOUT (io) "Positive reference input / reference output 2.5V if internal reference used.", 4 AVDD (power) "Power-supply input, 2.7V to 5.5V", 5 VREFL (in) "Negative reference input", 6 GND (power) "Ground reference point for all circuitry on the part", 7 VOUTC (hiz) "Analog output voltage from DAC-C", 8 VOUTD (hiz) "Analog output voltage from DAC-D", 9 ~{SYNC} (in) "Level-triggered control input (active-low). This input is the frame synchronization signal for the input data. When S\Y\N\C\ goes low, it enables the input shift register, and data are sampled on subsequent falling clock (See Datasheet)", 10 SCLK (in) "Serial clock input. Data can be transferred at rates up to 50MHz. Schmitt-Trigger logic input", 11 DIN (in) "Serial data input. Data are clocked into the 24-bit input shift register on each falling edge of the serial clock input.Schmitt-trigger logic input", 12 IOVDD (power) "Digital input-output power supply", 13 A0 (in) "Address 0-sets device address", 14 A1 (in) "Address 1-sets device address", 15 ~{ENABLE} (in) "The enable pin (active low) connects the SPI interface to the serial port", 16 LDAC (in) "Load DACs; rising edge triggered, loads all DAC registers"

## DAC8164IDPW
designator U?
14-Bit, Quad Channel, Ultra-Low Glitch, Voltage Output DAC with 2.5 V, 2 ppm/degC Internal Reference, -40 to 105 degC, 16-pin SOP (PW16), Green (RoHS & no Sb/Br); Manufacturer: Texas Instruments; PartNumber: DAC8164IDPW; DAC Channels: 4; DNL(Max)(+/-LSB): 1; INL(Max)(+/-LSB): 2; Interface: Serial SPI; Power Consumption(Typ)(mW): 2.6; Resolution(Bits): 14; Settling Time(us): 8; SFDR(dB): 79; SNR(dB): 87; SubFamily: Precision DAC (=<10MSPS); DatasheetVersion: SBAS410B; PackageVersion: 4040064-4/G, 02/2011; PackageReference: PW16; PackageDescription: 16-Pin Plastic Small Outline, Body 5 x 4.4 mm, Pitch 0.65 mm; Supplier 1: Digi-Key; Supplier Part Number 1: 296-23145-5-ND; Supplier 2: Newark; Supplier Part Number 2: 89M0338; Supplier 3: Mouser; Supplier Part Number 3: 595-DAC8164IDPW; Eco-Plan: Green (RoHS & no Sb/Br); Mounting Technology: Surface Mount; Code_JEDEC: MO-153; ComponentLink1Description: Manufacturer URL; ComponentLink1URL: http://www.ti.com/; ComponentLink2Description: Datasheet; ComponentLink2URL: http://www.ti.com/general/docs/lit/getliterature.tsp?genericPartNumber=DAC8164&fileType=pdf; ComponentLink3Description: Package Specification; ComponentLink3URL: http://www.ti.com/lit/ml/mpds361/mpds361.pdf
footprint TI-PW16_N (SOP, 16-Leads, Body 5x4.4mm, Pitch 0.65mm, IPC Medium Density)
footprint TI-PW16_L (SOP, 16-Leads, Body 5x4.4mm, Pitch 0.65mm, IPC High Density)
footprint TI-PW16_M (SOP, 16-Leads, Body 5x4.4mm, Pitch 0.65mm, IPC Low Density)
pins: 1 VOUTA (hiz) "Analog output voltage from DAC-A", 2 VOUTB (hiz) "Analog output voltage from DAC-B", 3 VREFH/VREFOUT (io) "Positive reference input / reference output 2.5V if internal reference used.", 4 AVDD (power) "Power-supply input, 2.7V to 5.5V", 5 VREFL (in) "Negative reference input", 6 GND (power) "Ground reference point for all circuitry on the part", 7 VOUTC (hiz) "Analog output voltage from DAC-C", 8 VOUTD (hiz) "Analog output voltage from DAC-D", 9 ~{SYNC} (in) "Level-triggered control input (active-low). This input is the frame synchronization signal for the input data. When S\Y\N\C\ goes low, it enables the input shift register, and data are sampled on subsequent falling clock (See Datasheet)", 10 SCLK (in) "Serial clock input. Data can be transferred at rates up to 50MHz. Schmitt-Trigger logic input", 11 DIN (in) "Serial data input. Data are clocked into the 24-bit input shift register on each falling edge of the serial clock input.Schmitt-trigger logic input", 12 IOVDD (power) "Digital input-output power supply", 13 A0 (in) "Address 0-sets device address", 14 A1 (in) "Address 1-sets device address", 15 ~{ENABLE} (in) "The enable pin (active low) connects the SPI interface to the serial port", 16 LDAC (in) "Load DACs; rising edge triggered, loads all DAC registers"

## DAC8164IDPWG4
designator U?
14-Bit, Quad Channel, Ultra-Low Glitch, Voltage Output DAC with 2.5 V, 2 ppm/degC Internal Reference, -40 to 105 degC, 16-pin SOP (PW16), Green (RoHS & no Sb/Br); Manufacturer: Texas Instruments; PartNumber: DAC8164IDPWG4; DAC Channels: 4; DNL(Max)(+/-LSB): 1; INL(Max)(+/-LSB): 2; Interface: Serial SPI; Power Consumption(Typ)(mW): 2.6; Resolution(Bits): 14; Settling Time(us): 8; SFDR(dB): 79; SNR(dB): 87; SubFamily: Precision DAC (=<10MSPS); DatasheetVersion: SBAS410B; PackageVersion: 4040064-4/G, 02/2011; PackageReference: PW16; PackageDescription: 16-Pin Plastic Small Outline, Body 5 x 4.4 mm, Pitch 0.65 mm; Supplier 1: Digi-Key; Supplier Part Number 1: DAC8164IDPWG4-ND; Supplier 2: Mouser; Supplier Part Number 2: 595-DAC8164IDPWG4; Eco-Plan: Green (RoHS & no Sb/Br); Mounting Technology: Surface Mount; Code_JEDEC: MO-153; ComponentLink1Description: Manufacturer URL; ComponentLink1URL: http://www.ti.com/; ComponentLink2Description: Datasheet; ComponentLink2URL: http://www.ti.com/general/docs/lit/getliterature.tsp?genericPartNumber=DAC8164&fileType=pdf; ComponentLink3Description: Package Specification; ComponentLink3URL: http://www.ti.com/lit/ml/mpds361/mpds361.pdf
footprint TI-PW16_N (SOP, 16-Leads, Body 5x4.4mm, Pitch 0.65mm, IPC Medium Density)
footprint TI-PW16_L (SOP, 16-Leads, Body 5x4.4mm, Pitch 0.65mm, IPC High Density)
footprint TI-PW16_M (SOP, 16-Leads, Body 5x4.4mm, Pitch 0.65mm, IPC Low Density)
pins: 1 VOUTA (hiz) "Analog output voltage from DAC-A", 2 VOUTB (hiz) "Analog output voltage from DAC-B", 3 VREFH/VREFOUT (io) "Positive reference input / reference output 2.5V if internal reference used.", 4 AVDD (power) "Power-supply input, 2.7V to 5.5V", 5 VREFL (in) "Negative reference input", 6 GND (power) "Ground reference point for all circuitry on the part", 7 VOUTC (hiz) "Analog output voltage from DAC-C", 8 VOUTD (hiz) "Analog output voltage from DAC-D", 9 ~{SYNC} (in) "Level-triggered control input (active-low). This input is the frame synchronization signal for the input data. When S\Y\N\C\ goes low, it enables the input shift register, and data are sampled on subsequent falling clock (See Datasheet)", 10 SCLK (in) "Serial clock input. Data can be transferred at rates up to 50MHz. Schmitt-Trigger logic input", 11 DIN (in) "Serial data input. Data are clocked into the 24-bit input shift register on each falling edge of the serial clock input.Schmitt-trigger logic input", 12 IOVDD (power) "Digital input-output power supply", 13 A0 (in) "Address 0-sets device address", 14 A1 (in) "Address 1-sets device address", 15 ~{ENABLE} (in) "The enable pin (active low) connects the SPI interface to the serial port", 16 LDAC (in) "Load DACs; rising edge triggered, loads all DAC registers"